# Altium footprint library spd1501.PcbLib: 80 footprints (part 2 of 5)
Each footprint in its own frame and in the unit in brackets; x right, y up, seen from the top. Pads: shape width x height; smd on the part's side, far side on the other; paste and mask are expansions set on the pad; w line width, h text height; cw(c..) or ccw(c..) is an arc to the next point about the centre after c.
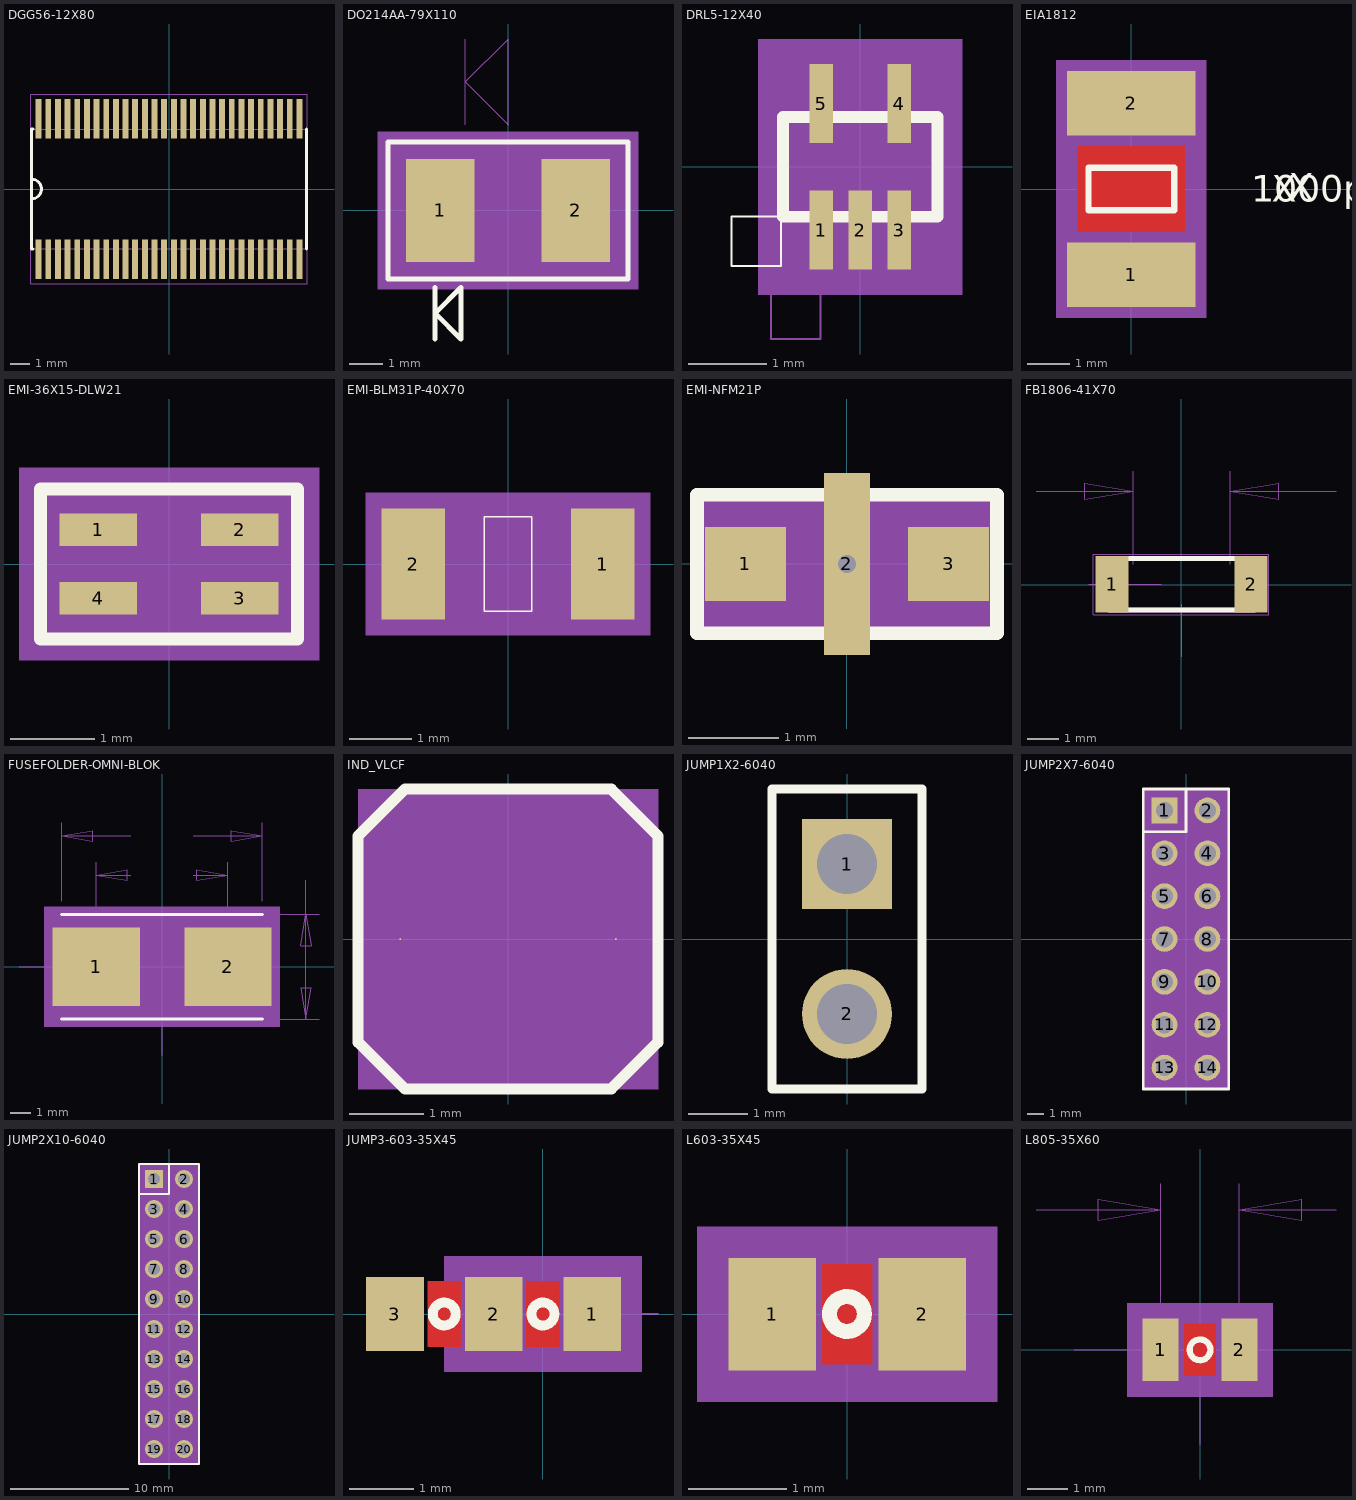
[diagram p1: the footprints below, top view; thin cyan lines are the x and y axes]

## DGG56-12X80 [mil]
pads (56):
  rrect0% 12x80 smd: 1(-265.7,-143) 2(-246,-143) 3(-226.3,-143) 4(-206.6,-143) 5(-187,-143) 6(-167.3,-143) 7(-147.6,-143) 8(-127.9,-143) 9(-108.2,-143) 10(-88.6,-143) 11(-68.9,-143) 12(-49.2,-143) 13(-29.5,-143) 14(-9.8,-143) 15(9.8,-143) 16(29.5,-143) 17(49.2,-143) 18(68.9,-143) 19(88.6,-143) 20(108.2,-143) 21(127.9,-143) 22(147.6,-143) 23(167.3,-143) 24(187,-143) 25(206.6,-143) 26(226.3,-143) 27(246,-143) 28(265.7,-143) 29(265.7,143) 30(246,143) 31(226.3,143) 32(206.6,143) 33(187,143) 34(167.3,143) 35(147.6,143) 36(127.9,143) 37(108.2,143) 38(88.6,143) 39(68.9,143) 40(49.2,143) 41(29.5,143) 42(9.8,143) 43(-9.8,143) 44(-29.5,143) 45(-49.2,143) 46(-68.9,143) 47(-88.6,143) 48(-108.2,143) 49(-127.9,143) 50(-147.6,143) 51(-167.3,143) 52(-187,143) 53(-206.6,143) 54(-226.3,143) 55(-246,143) 56(-265.7,143)
Top Overlay:
  lines w6: -280,-20 ccw(c-280,0) -280,20 ; -277,-122 -280,-122 -280,122 -277,122 ; 280,-122 280,122
Mechanical 15:
  text "1" at -266,-142 h15
  text "2" at -245,-141 h15
  text "17" at 44.2,-141 h15
  text "31" at 219.3,145 h15
  text "26" at 221.3,-141 h15
  text "28" at 260,-141 h15
  text "22" at 142.6,-141 h15
  text "24" at 182,-141 h15
  text "20" at 103.2,-141 h15
  text "12" at -54.2,-141 h15
  text "10" at -93.6,-141 h15
  text "7" at -146.6,-141 h15
  text "16" at 24.5,-141 h15
  text "14" at -14.8,-141 h15
  text "5" at -186,-141 h15
  text "3" at -225.3,-141 h15
  text "35" at 140.6,145 h15
  text "47" at -95.6,145 h15
  text "29" at 260,146 h15
  text "43" at -16.8,145 h15
  text "41" at 22.5,145 h15
  text "4" at -205.6,-141 h15
  text "23" at 162.3,-141 h15
  text "44" at -36.5,145 h15
  text "53" at -213.6,145 h15
  text "37" at 101.2,145 h15
  text "48" at -115.2,145 h15
  text "40" at 42.2,145 h15
  text "42" at 2.8,145 h15
  text "46" at -75.9,145 h15
  text "32" at 199.6,145 h15
  text "30" at 239,145 h15
  text "50" at -154.6,145 h15
  text "39" at 61.9,145 h15
  text "45" at -56.2,145 h15
  text "56" at -272,146 h15
  text "54" at -233.3,145 h15
  text "36" at 120.9,145 h15
  text "21" at 122.9,-141 h15
  text "15" at 4.8,-141 h15
  text "13" at -34.5,-141 h15
  text "11" at -73.9,-141 h15
  text "18" at 63.9,-141 h15
  text "6" at -166.3,-141 h15
  text "9" at -107.2,-141 h15
  text "27" at 241,-141 h15
  text "25" at 201.6,-141 h15
  text "8" at -126.9,-141 h15
  text "19" at 83.6,-141 h15
  text "49" at -134.9,145 h15
  text "55" at -253,145 h15
  text "38" at 81.6,145 h15
  text "51" at -174.3,145 h15
  text "52" at -194,145 h15
  text "33" at 180,145 h15
  text "34" at 160.3,145 h15
Mechanical 16:
  lines w1: -280,-20 ccw(c-280,0) -280,20 ; -281.7,-193 281.7,-193 281.7,193 -281.7,193 -281.7,-193 ; -280,-122 -280,122 280,122 280,-122 -280,-122
Mechanical 17:
  text ".Designator" at -56,-14 h25
  text "SN74CBTLV16212DGGR" at -71,43 h35
  text "X" at 12,43 h35
  text "X" at 51,42 h35
Mechanical 20:
  text "dgg56-12X80" at -195.5,226 h30

## DO214AA-79X110 [mil]
pads (2):
  rect 80x120 smd: 1(-79,0) 2(79,0)
Top Overlay:
  lines w6: -85,-150 -85,-90 ; -140,-80 140,-80 140,80 -140,80 -140,-80 ; -85,-120 -55,-150 -55,-90 -85,-120
  text ".Designator" at 160,-15 h35
Mechanical 15:
  text "1" at -116,16 h40
  text "2" at 81,11 h40
Mechanical 16:
  region: -152,92 152,92 152,-92 -152,-92
  lines w1: -50,100 -50,200 ; -140,-80 140,-80 140,80 -140,80 -140,-80 ; -50,150 0,100 0,200 -50,150
Mechanical 20:
  text "do214aa-79x110" at -338,259 h40

## DRL5-12X40 [mil]
pads (5):
  rect 12x40 smd: 1(-19.7,-32) 2(0,-32) 3(19.7,-32) 4(19.7,32) 5(-19.7,32)
Top Overlay:
  lines w1: -65,-50 -40,-50 -40,-25 -65,-25 -65,-50
  lines w6: -39,-25.2 39,-25.2 39,25.2 -39,25.2 -39,-25.2
  text ".Designator" at 110,-40 h35
Mechanical 15:
  text "1" at -35.7,-32 h40
  text "5" at -35.7,32 h40
  text "3" at 3.7,-32 h40
  text "4" at 3.7,32 h40
  text "2" at -16,-32 h40
Mechanical 16:
  region: -51.6,64.6 51.6,64.6 51.6,-64.6 -51.6,-64.6
  lines w1: -45,-87 -20,-87 -20,-62 -45,-62 -45,-87
  lines w6: -39,-25.2 39,-25.2 39,25.2 -39,25.2 -39,-25.2
Mechanical 17:
  text "TPD2E001DRL" at -101.2,40.9 h40.2
  text "TOL" at -55.9,85.8 h40.2
  text "PART#" at -116.1,-120.9 h40.2

## EIA1812 [mil]
pads (2):
  rect 120x60 smd: 1(0,-80) 2(0,80)
Top Layer:
  region: -50,40 50,40 50,-40 -50,-40
Top Overlay:
  lines w6: -40,-20 -40,20 40,20 40,-20 -40,-20
  text "X" at 147,-10 h25
  text "X" at 131,-12 h25
  text "1000pF 2kV" at 112,-12 h25
Mechanical 15:
  text "1" at 14,-80 h35
  text "2" at 14,80 h35
Mechanical 16:
  region: -70,-120 70,-120 70,120 -70,120

## EMI-36X15-DLW21 [mil]
pads (4):
  rect 36x15 smd: 1(-33,16) 2(33,16) 3(33,-16) 4(-33,-16)
Top Overlay:
  lines w6: -60,-35 60,-35 60,35 -60,35 -60,-35
Mechanical 15:
  text "1" at -49,16 h40
  text "2" at 17,16 h40
  text "3" at 17,-16 h40
  text "4" at -49,-16 h40
Mechanical 16:
  region: -70,-45 70,-45 70,45 -70,45
  lines w1: -60,-35 60,-35 60,35 -60,35 -60,-35
Mechanical 17:
  text "TOL" at -40,-120 h40
  text "DLW21SN900SQ2" at -130,-115 h40
  text ".Designator" at -170,-120 h40
  text "PART#" at -120,-115 h40
Mechanical 20:
  text "BLM11" at -120,90 h40

## EMI-BLM31P-40X70 [mil]
pads (2):
  rect 40x70 smd: 1(60,0) 2(-60,0)
Top Overlay:
  lines w1: -15,-30 -15,30 15,30 15,-30 -15,-30
Mechanical 15:
  text "1" at 44,20 h40
  text "2" at -76,20 h40
Mechanical 16:
  region: 90,45 -90,45 -90,-45 90,-45
  lines w1: -67,-35 -67,35 67,35 67,-35 -67,-35
Multi-Layer:
  region: 35,-35 -35,-35 -35,35 35,35
Mechanical 21:
  text ".Designator" at -48,-50 h40
  text "BLMG1P500SPT" at 45,20 h40
  text "X" at 5,20 h40
  text "X" at -25,15 h40

## EMI-NFM21P [mil]
pads (3):
  rect 35x32 smd: 1(-44,0) 3(44,0)
  rect 20x79 smd: 2(0,0)
via 0,0 diameter 19 hole 8
Top Overlay:
  lines w6: -65,-30 65,-30 65,30 -65,30 -65,-30
Mechanical 15:
  text "1" at -44,4 h10
  text "3" at 44,4 h10
  text "2" at 0,4 h10
Mechanical 16:
  region: -65,-30 65,-30 65,30 -65,30
  lines w6: -39,-25 39,-25 39,25 -39,25 -39,-25
Mechanical 17:
  text "TOL" at -40,-120 h10
  text "NFM21PC474R1C3D" at -130,-115 h10
  text ".Designator" at -170,-120 h10
  text "PART#" at -120,-115 h10
Mechanical 20:
  text "FILTER" at -135,55 h10

## FB1806-41X70 [mil]
pads (2):
  rect 41x70 smd: 1(-85.5,0.5) 2(86.5,0.5)
Top Overlay:
  lines w6: -89.5,-31.5 90.5,-31.5 90.5,32.5 -89.5,32.5 -89.5,-31.5
Mechanical 15:
  text "1" at -101.5,0.5 h40
  text "2" at 70.5,0.5 h40
Mechanical 16:
  lines w1: -179.5,115.5 -59.5,115.5 ; -114.5,0.5 -24.5,0.5 ; -59.5,25.5 -59.5,140.5 ; 0.5,-89.5 0.5,-24.5 ; 60.5,25.5 60.5,140.5 ; 191.5,115.5 60.5,115.5 ; -59.5,115.5 -119.5,105.5 -119.5,125.5 -59.5,115.5 ; 60.5,115.5 120.5,125.5 120.5,105.5 60.5,115.5 ; -108.5,-37.5 108.5,-37.5 108.5,37.5 -108.5,37.5 -108.5,-37.5
  lines w6: -89.5,-31.5 90.5,-31.5 90.5,32.5 -89.5,32.5 -89.5,-31.5
Multi-Layer:
  region: -34.5,35.5 35.5,35.5 35.5,-34.5 -34.5,-34.5
Mechanical 17:
  text ".Designator" at -47.5,50.5 h40
  text "BLM41P750SPT" at -34.5,-14.5 h40
  text "X" at 0.5,-14.5 h40
  text "X" at 40.5,-14.5 h40
Mechanical 20:
  text "PAD 40X70OV" at -65.5,-224.5 h40
  text "SM  48X78" at -83.5,-299.5 h40
  text "SP  40X70OV" at -65.5,-374.5 h40
  text "C1206-40X70" at -75.5,205.5 h40
  text ".120" at 206.5,105.5 h40
  text "0" at -24.5,-149.5 h40
  text "0" at -174.5,-24.5 h40

## FUSEFOLDER-OMNI-BLOK [mil]
pads (2):
  rect 167x150 smd: 1(-126,0) 2(126,0)
Top Overlay:
  lines w6: -192,-100 192,-100 ; -192,100 192,100
Mechanical 15:
  text "2" at 126,-16 h40
  text "1" at -126,-16 h40
Mechanical 16:
  region: -225,115 225,115 225,-115 -225,-115
  lines w1: -273.3,0 -25,0 ; -192,125 -192,275 ; -126,25 -126,200 ; -59.7,175 -126,175 ; -59.7,250 -192,250 ; 0,-168.8 0,-25 ; 59.7,175 126,175 ; 59.7,250 192,250 ; 126,25 126,200 ; 192,125 192,275 ; 217,-100 300,-100 ; 217,100 300,100 ; 275,165.3 275,100 ; -192,250 -132,260 -132,240 -192,250 ; -126,175 -66,185 -66,165 -126,175 ; 126,175 66,165 66,185 126,175 ; 192,250 132,240 132,260 192,250 ; 275,-100 265,-40 285,-40 275,-100 ; 275,-100 275,100 ; 275,100 285,40 265,40 275,100 ; -192,-100 192,-100 192,100 -192,100 -192,-100
Multi-Layer:
  region: -35,90 35,90 35,-90 -35,-90
Mechanical 17:
  text "X" at -15,65 h25
  text "X" at -65,65 h25
  text "F_4.0A" at -40,65 h25
  text ".Designator" at -60,-5 h25
Mechanical 20:
  text "0" at -308,-12.5 h30
  text "0" at -15,-220 h30
  text ".200" at 287.5,184 h30
  text ".384" at -95,235 h30
  text ".252" at -100,160 h30
  text "PAD = 167X150REC" at -235,-275 h30
  text "FUSE2-167X150" at -235,425 h30

## IND_VLCF [mil]
pads (2):
  oct 1x1 smd: 1(-57.5,0) 2(57.5,0)
Top Overlay:
  lines w6: -80,-55 -80,55 -55,80 55,80 80,55 80,-55 55,-80 -55,-80 -80,-55
Mechanical 15:
  text "2" at 71.5,0 h35
  text "1" at -43.5,0 h35
Mechanical 16:
  region: -80,80 80,80 80,-80 -80,-80
  lines w1: -80,-55 -55,-80 55,-80 80,-55 80,55 55,80 -55,80 -80,55 -80,-55
Mechanical 17:
  text "X" at -25,-70 h40
  text "X" at -75,-70 h40
  text "2.2uH" at -120,-70 h40
  text ".Designator" at -100,25 h40

## JUMP1X2-6040 [mil]
pads (2):
  rect 60x60 hole 40: 1(0,50)
  round 60 hole 40: 2(0,-50)
Top Overlay:
  lines w6: -50,-100 50,-100 50,100 -50,100 -50,-100
  text ".Designator" at -35,115 h35
Mechanical 15:
  text "1" at -16,50 h40
  text "2" at -16,-50 h40
Mechanical 16:
  lines w1: -50,-100 50,-100 ; -50,-100 -50,100 ; -50,-100 50,-100 ; -50,-100 -50,100 ; -50,100 50,100 ; -50,100 50,100 ; 50,-100 50,100 ; 50,-100 50,100
Mechanical 17:
  text "HEADER 2" at 5,160 h35
  text "X" at 55,160 h35
  text "X" at 105,160 h35
Mechanical 20:
  text "PAD 60RD40" at -150,-800 h30

## JUMP2X7-6040 [mil]
pads (14):
  rect 60x60 hole 40: 1(-50,300)
  round 60 hole 40: 2(50,300) 3(-50,200) 4(50,200) 5(-50,100) 6(50,100) 7(-50,0) 8(50,0) 9(-50,-100) 10(50,-100) 11(-50,-200) 12(50,-200) 13(-50,-300) 14(50,-300)
Top Overlay:
  lines w6: -100,250 0,250 0,350 ; -100,-350 100,-350 100,350 -100,350 -100,-350
  text ".Designator" at 125,330 h35
Mechanical 15:
  text "8" at 50,16 h40
  text "13" at -50,-268 h40
  text "7" at -50,16 h40
  text "3" at -50,216 h40
  text "2" at 50,316 h40
  text "1" at -50,316 h40
  text "14" at 50,-268 h40
  text "5" at -50,116 h40
  text "9" at -50,-84 h40
  text "11" at -50,-168 h40
  text "12" at 50,-168 h40
  text "10" at 50,-68 h40
  text "6" at 50,116 h40
  text "4" at 50,216 h40
Mechanical 16:
  region: -100,-350 100,-350 100,350 -100,350
  lines w1: -100,250 0,250 0,350 ; -100,-350 100,-350 100,350 -100,350 -100,-350
Mechanical 17:
  text "14 Pin Emulation Header" at -45,560 h35
  text "X" at 5,560 h35
  text "X" at 55,560 h35
Mechanical 20:
  text "PAD 60RD40" at -200,-450 h30
  text "TP-13063" at -225,625 h30

## JUMP2X10-6040 [mil]
pads (20):
  rect 60x60 hole 40: 1(-50,450)
  round 60 hole 40: 2(50,450) 3(-50,350) 4(50,350) 5(-50,250) 6(50,250) 7(-50,150) 8(50,150) 9(-50,50) 10(50,50) 11(-50,-50) 12(50,-50) 13(-50,-150) 14(50,-150) 15(-50,-250) 16(50,-250) 17(-50,-350) 18(50,-350) 19(-50,-450) 20(50,-450)
Top Overlay:
  lines w6: -100,400 0,400 0,500 ; -100,-500 100,-500 100,500 -100,500 -100,-500
  text ".Designator" at 125,465 h35
Mechanical 15:
  text "2" at 50,466 h40
  text "1" at -50,466 h40
  text "8" at 50,166 h40
  text "13" at -50,-118 h40
  text "5" at -50,266 h40
  text "3" at -50,366 h40
  text "7" at -50,166 h40
  text "15" at -50,-218 h40
  text "11" at -50,-18 h40
  text "9" at -50,66 h40
  text "20" at 50,-418 h40
  text "18" at 50,-318 h40
  text "16" at 50,-218 h40
  text "14" at 50,-118 h40
  text "12" at 50,-18 h40
  text "10" at 50,82 h40
  text "6" at 50,266 h40
  text "4" at 50,366 h40
  text "19" at -50,-418 h40
  text "17" at -50,-318 h40
Mechanical 16:
  region: -100,-500 100,-500 100,500 -100,500
  lines w1: -100,400 0,400 0,500 ; -100,-500 100,-500 100,500 -100,500 -100,-500
Mechanical 17:
  text "SAMTEC-TSM-110-DV" at -45,710 h35
  text "X" at 5,710 h35
  text "X" at 55,710 h35
Mechanical 20:
  text "PAD 60RD40" at -200,-1150 h30
  text "TP-13063" at -225,775 h30

## JUMP3-603-35X45 [mil]
pads (3):
  rrect0% 35x45 smd: 1(30,0) 2(-30,0) 3(-90,0)
Top Layer:
  region: 10,-20 -10,-20 -10,20 10,20
  region: -50,-20 -70,-20 -70,20 -50,20
Top Overlay:
  circle w6: c0,0 r7
  circle w6: c-60,0 r7
  text ".Designator" at 115,70 h35
Mechanical 15:
  text "2" at -51,10 h20
  text "1" at 9,10 h20
  text "3" at -111,10 h20
Mechanical 16:
  region: 60,-35 -60,-35 -60,35 60,35
  lines w1: 25,0 70,0 ; -55,-30 55,-30 55,30 -55,30 -55,-30
Multi-Layer:
  region: 30,-25 -90,-25 -90,25 30,25
Mechanical 21:
  text "JUMPER3_SMT" at 20,15 h40
  text "X" at -15,15 h40
  text "X" at -50,10 h40

## L603-35X45 [mil]
pads (2):
  rrect0% 35x45 smd: 1(-30,0) 2(30,0)
Top Layer:
  region: -10,20 10,20 10,-20 -10,-20
Top Overlay:
  circle w6: c0,0 r7
  text ".Designator" at -190,-45 h35
Mechanical 15:
  text "2" at 19,-10 h20
  text "1" at -41,-10 h20
Mechanical 16:
  region: -60,35 60,35 60,-35 -60,-35
  lines w1: -55,-30 55,-30 55,30 -55,30 -55,-30
Multi-Layer:
  region: -30,25 30,25 30,-25 -30,-25
Mechanical 17:
  text "30 OHM" at -20,-15 h40
  text "X" at 15,-15 h40
  text "X" at 50,-10 h40

## L805-35X60 [mil]
pads (2):
  rrect0% 35x60 smd: 1(-38,0) 2(38,0)
Top Layer:
  region: -15,25 15,25 15,-25 -15,-25
Top Overlay:
  circle w6: c0,0 r10
  text ".Designator" at -95,25 h35
Mechanical 15:
  text "1" at -22,0 h40
  text "2" at 54,0 h40
Mechanical 16:
  region: -70,45 70,45 70,-45 -70,-45
  lines w1: -158,135 -38,135 ; -121,0 -25,0 ; -38,25 -38,160 ; 0,-91 0,-25 ; 38,25 38,160 ; 131,135 38,135 ; -38,135 -98,125 -98,145 -38,135 ; 38,135 98,145 98,125 38,135 ; -65,-40 65,-40 65,40 -65,40 -65,-40
Multi-Layer:
  region: -35,30 35,30 35,-30 -35,-30
Mechanical 17:
  text "BLM21P221SN" at -25,-25 h40
  text "X" at 10,-25 h40
  text "X" at 45,-25 h40
Mechanical 20:
  text "PAD 35X60OV" at -200,-265 h40
  text "L805-35X60" at -200,220 h40
  text ".076" at 165,115 h40
  text "0" at -20,-165 h40
  text "0" at -195,-20 h40